# Altium schematic symbol library MACHADA_CONNECTORS_FPC.SchLib: 1 symbol
Pins are listed as number, name and electrical type; pins without a type are passive.

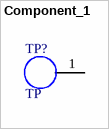
[diagram p0: symbol Component_1]

## Component_1
designator TP?, comment TP
footprint TEST_POINT_0.9MM
pins: 1